# Altium schematic symbol library SYM-Connector.SchLib: 117 symbols (part 2 of 4)
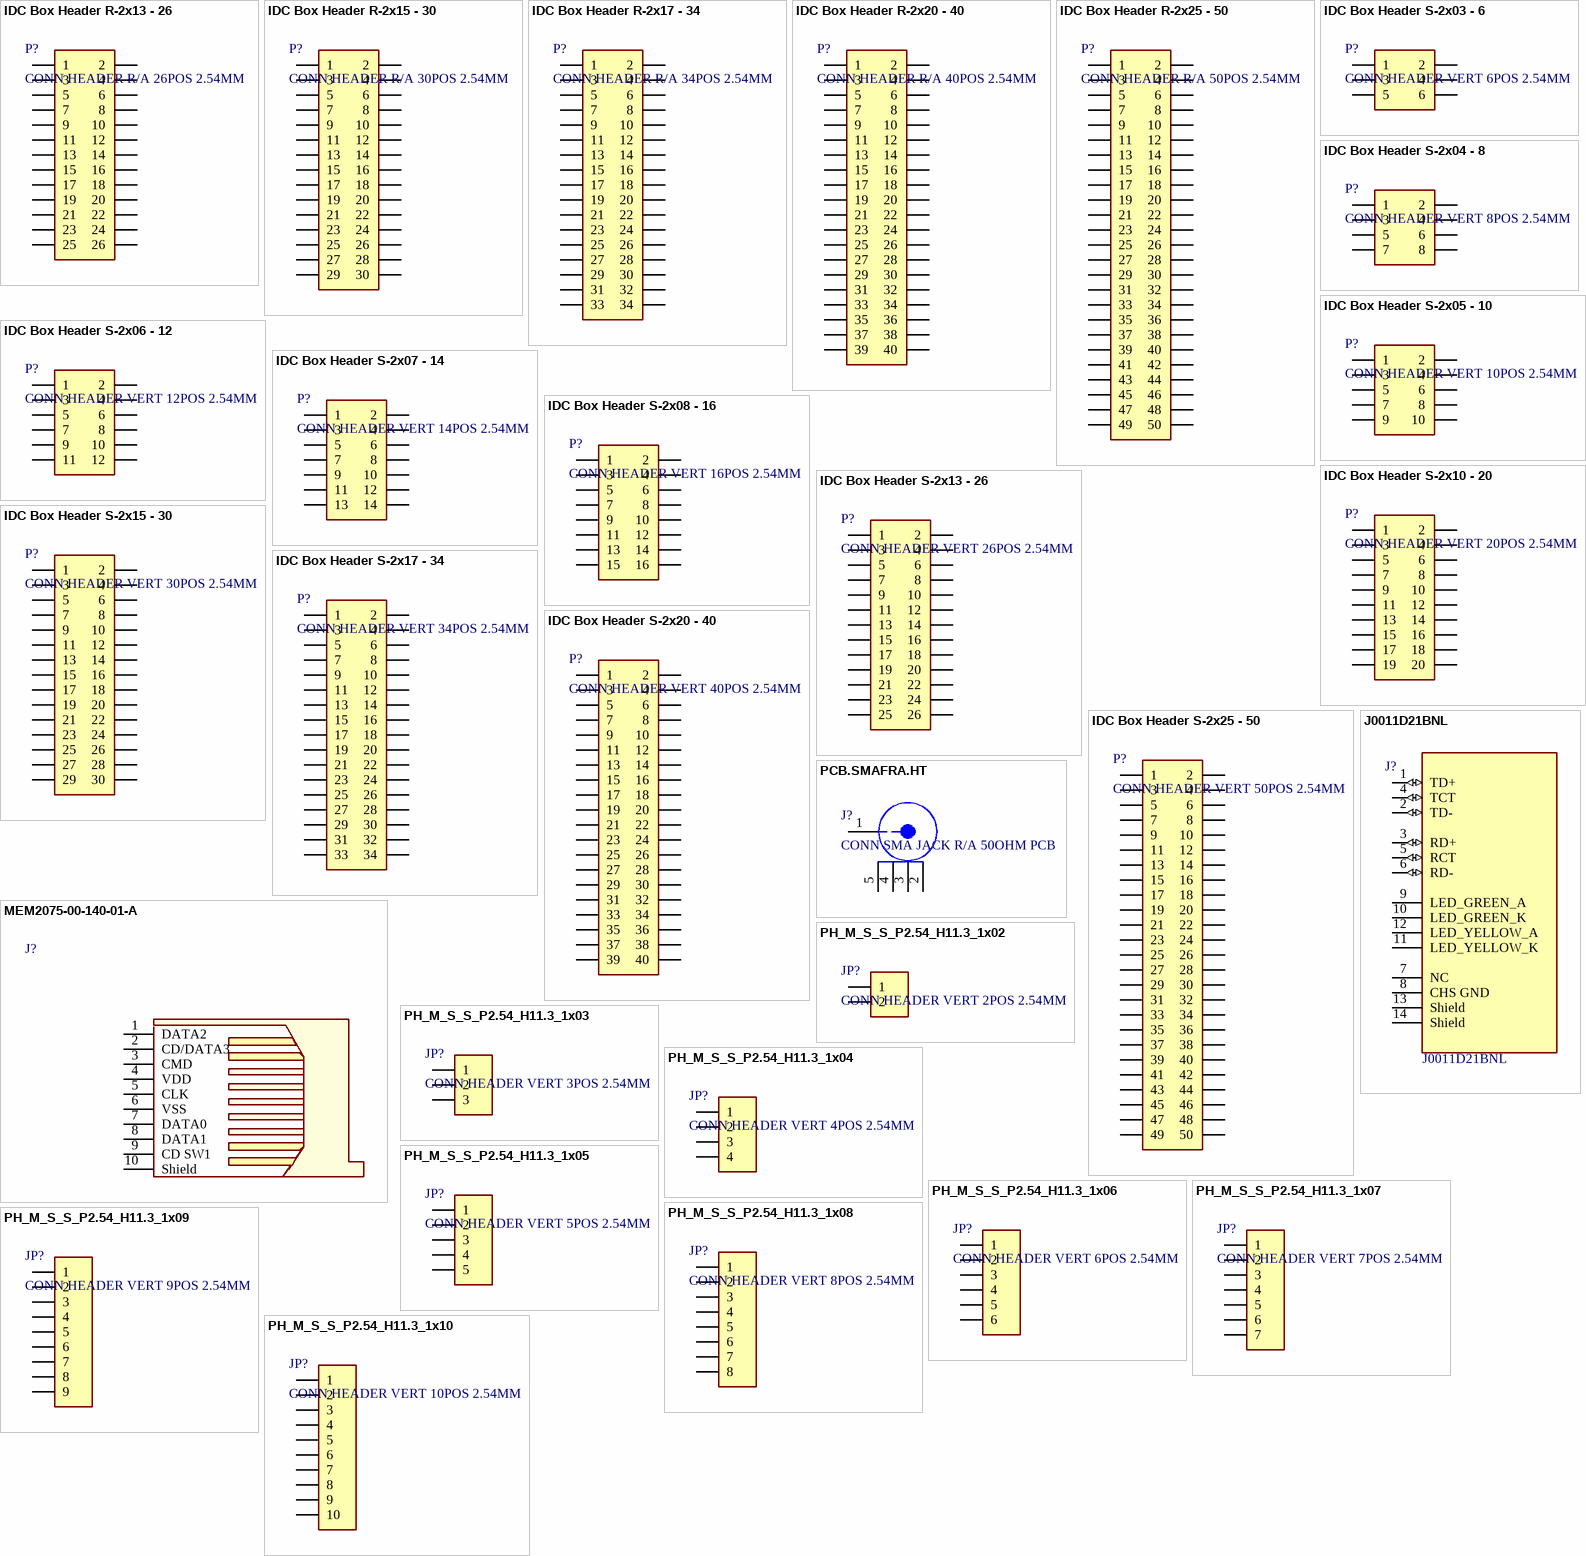
[diagram p5: symbols IDC Box Header R-2x13 - 26 to PH_M_S_S_P2.54_H11.3_1x10]

## IDC Box Header S-2x10 - 20
designator P?, comment CONN HEADER VERT 20POS 2.54MM
Conn Shrouded Header (4 Sides) HDR 20 POS 2.54mm Solder ST Thru-Hole C-Grid® Frame; Manufacturer: Molex; Manufacturer Part Number: 0702462001; System: Connector; Number of Positions: 20; Connector Type: Male Pin; Contact Resistance: 15mR; Max Voltage Rating (AC): 250V; Row Spacing: 0.1inch; Category: Connectors; Value: ?; Supplier 1: Digi-Key; RoHS: Yes; Stock 1: 2710; Pricing 1: 1=2/39000, 10=2/03200, 80=1/67875, 1440=1/32536, 5040=1/17515 (USD); Mount: Through Hole; Housing Material: Polybutylene; Housing Color: Black; Color: Black; Contact Plating: Gold; Min Operating Temperature: -55°C; Max Operating Temperature: 120°C; Packaging: Tray; Number of Rows: 2; Number of Contacts: 20; Termination: Solder; Orientation: Straight; Max Voltage Rating (DC): 250V; Length: 33.02mm; Pitch: 2.54mm; Depth: 8.89mm; Contact Mating Length: 0.24inch; ComponentLink1URL: http://components.arrow.com/part/dataview/41624620S6941508N3303?src-supplier=Arrow+Electronics; ComponentLink1Description: http://components.arrow.com/part/dataview/41624620S6941508N3303?src-supplier=Arrow+Electronics; ComponentLink2URL: http://components.arrow.com/part/dataview/0323_01057240?src-supplier=Arrow+Europe; ComponentLink2Description: http://components.arrow.com/part/dataview/0323_01057240?src-supplier=Arrow+Europe; ComponentLink3URL: https://www.molex.com/pdm_docs/sd/702462001_sd.pdf?src-supplier=Digi-Key; ComponentLink3Description: https://www.molex.com/pdm_docs/sd/702462001_sd.pdf?src-supplier=Digi-Key; Supplier Part Number 1: WM6548-ND
footprint IDC-S1-S-2x10 - 20
pins: 1, 2, 3, 4, 5, 6, 7, 8, 9, 10, 11, 12, 13, 14, 15, 16, 17, 18, 19, 20

## IDC Box Header S-2x13 - 26
designator P?, comment CONN HEADER VERT 26POS 2.54MM
2.54mm Pitch C-Grid Header Low Profile Dual Row Vertical Shrouded 26 Circuits 0.38; Manufacturer: Molex; Manufacturer Part Number: 0702462601; Number of Positions: 26; Connector Type: Male Pin; Contact Resistance: 15mR; Max Voltage Rating (AC): 250V; Pitch: 0.1inch; Supplier 1: Digi-Key; RoHS: Yes; Category: Headers and Wire Housings; Stock 1: 1; Pricing 1: 1=3/68000, 10=3/23400, 100=2/57250, 1000=2/13150, 5000=1/96000 (USD); Mount: Through Hole; Color: Black; Contact Plating: Gold; Housing Color: Black; Housing Material: Polybutylene; Min Operating Temperature: -55°C; Max Operating Temperature: 120°C; Packaging: Tray; Number of Rows: 2; Termination: Solder; Orientation: Straight; Series: C-Grid® 70246; Contact Type: Male Pin; Length: 40.64mm; Row Spacing: 0.1inch; Depth: 8.89mm; Contact Mating Length: 0.24inch; Radiation Hardening: No; RoHS Compliant: Yes; ComponentLink1URL: https://datasheet.ciiva.com/6814/702461001-sd-6814000.pdf?src-supplier=Digi-Key; ComponentLink1Description: https://datasheet.ciiva.com/6814/702461001-sd-6814000.pdf?src-supplier=Digi-Key; Supplier Part Number 1: WM9222-ND
footprint IDC-S1-S-2x13 - 26
pins: 1, 2, 3, 4, 5, 6, 7, 8, 9, 10, 11, 12, 13, 14, 15, 16, 17, 18, 19, 20, 21, 22, 23, 24, 25, 26

## IDC Box Header S-2x15 - 30
designator P?, comment CONN HEADER VERT 30POS 2.54MM
Conn Shrouded Header (4 Sides) HDR 30 POS 2.54mm Solder ST Top Entry Thru-Hole C-Grid® Tray; Manufacturer: Molex; Manufacturer Part Number: 0702463001; Number of Contacts: 30; Gender: Male; Max Voltage Rating (DC): 250V; Supplier 1: Digi-Key; RoHS: Yes; Category: Headers and Wire Housings; Stock 1: 847; Pricing 1: 1=3/04000, 10=2/67700, 100=2/12910, 1000=1/76412, 5000=1/58163 (USD); Housing Color: Black; Housing Material: Polybutylene; Contact Plating: Gold; Contact Material: Bronze; Min Operating Temperature: -55°C; Max Operating Temperature: 120°C; Orientation: Straight; Termination: Solder; Packaging: Tray; Number of Rows: 2; Length: 45.72mm; Pitch: 2.54mm; Depth: 8.89mm; ComponentLink1URL: http://components.arrow.com/part/dataview/0323_02949315?src-supplier=Arrow+Europe; ComponentLink1Description: http://components.arrow.com/part/dataview/0323_02949315?src-supplier=Arrow+Europe; ComponentLink2URL: http://components.arrow.com/part/dataview/41624628S6955577N3303?src-supplier=Arrow+Electronics; ComponentLink2Description: http://components.arrow.com/part/dataview/41624628S6955577N3303?src-supplier=Arrow+Electronics; Supplier Part Number 1: 900-0702463001-ND
footprint IDC-S1-S-2x15 - 30
pins: 1, 2, 3, 4, 5, 6, 7, 8, 9, 10, 11, 12, 13, 14, 15, 16, 17, 18, 19, 20, 21, 22, 23, 24, 25, 26, 27, 28, 29, 30

## IDC Box Header S-2x17 - 34
designator P?, comment CONN HEADER VERT 34POS 2.54MM
Conn Shrouded Header (4 Sides) HDR 34 POS 2.54mm Solder ST Thru-Hole C-Grid® Frame; Manufacturer: Molex; Manufacturer Part Number: 0702463401; Number of Positions: 34; Connector Type: Male Pin; Contact Resistance: 15mR; Max Voltage Rating (AC): 250V; Pitch: 0.1inch; Supplier 1: Digi-Key; RoHS: Yes; Category: Headers and Wire Housings; Stock 1: 779; Pricing 1: 1=3/03000, 10=2/66700, 100=2/12180, 1000=1/75806, 5000=1/57619 (USD); Mount: Through Hole; Color: Black; Housing Color: Black; Housing Material: Polybutylene; Contact Plating: Gold; Min Operating Temperature: -55°C; Max Operating Temperature: 120°C; Number of Rows: 2; Packaging: Tray; Termination: Solder; Orientation: Straight; Length: 50.8mm; Row Spacing: 0.1inch; Depth: 8.89mm; Contact Mating Length: 0.24inch; Radiation Hardening: No; ComponentLink1URL: https://datasheet.ciiva.com/6814/702461001-sd-6814000.pdf?src-supplier=Digi-Key; ComponentLink1Description: https://datasheet.ciiva.com/6814/702461001-sd-6814000.pdf?src-supplier=Digi-Key; ComponentLink2URL: https://datasheet.ciiva.com/9465/0702463401-pcb-headers-9465157.pdf?src-supplier=Avnet; ComponentLink2Description: https://datasheet.ciiva.com/9465/0702463401-pcb-headers-9465157.pdf?src-supplier=Avnet; Supplier Part Number 1: WM9224-ND
footprint IDC-S1-S-2x17 - 34
pins: 1, 2, 3, 4, 5, 6, 7, 8, 9, 10, 11, 12, 13, 14, 15, 16, 17, 18, 19, 20, 21, 22, 23, 24, 25, 26, 27, 28, 29, 30, 31, 32, 33, 34

## IDC Box Header S-2x20 - 40
designator P?, comment CONN HEADER VERT 40POS 2.54MM
Conn Shrouded Header (4 Sides) HDR 40 POS 2.54mm Solder ST Thru-Hole C-Grid® Frame; Manufacturer: Molex; Manufacturer Part Number: 0702464001; Number of Positions: 40; Connector Type: Male Pin; Contact Resistance: 15mR; Max Voltage Rating (AC): 125V; Row Spacing: 0.1inch; Supplier 1: Digi-Key; RoHS: Yes; Category: Headers and Wire Housings; Stock 1: 477; Pricing 1: 1=4/05000, 10=3/56700, 400=2/83728, 1200=2/35089 (USD); Mount: Through Hole; Color: Black; Housing Color: Black; Housing Material: Polybutylene; Contact Plating: Gold; Contact Material: Bronze; Min Operating Temperature: -55°C; Max Operating Temperature: 120°C; Number of Rows: 2; Packaging: Tray; Termination: Solder; Number of Contacts: 40; Series: C-Grid® 70246; Contact Type: Male Pin; Orientation: Straight; Length: 58.42mm; Pitch: 2.54mm; Depth: 8.89mm; Contact Mating Length: 0.24inch; Radiation Hardening: No; RoHS Compliant: Yes; ComponentLink1URL: https://datasheet.ciiva.com/6814/702461001-sd-6814000.pdf?src-supplier=Digi-Key; ComponentLink1Description: https://datasheet.ciiva.com/6814/702461001-sd-6814000.pdf?src-supplier=Digi-Key; Supplier Part Number 1: WM6550-ND
footprint IDC-S1-S-2x20 - 40
pins: 1, 2, 3, 4, 5, 6, 7, 8, 9, 10, 11, 12, 13, 14, 15, 16, 17, 18, 19, 20, 21, 22, 23, 24, 25, 26, 27, 28, 29, 30, 31, 32, 33, 34, 35, 36, 37, 38, 39, 40

## IDC Box Header S-2x25 - 50
designator P?, comment CONN HEADER VERT 50POS 2.54MM
2.54mm Pitch C-Grid Header Low Profile Dual Row Vertical Shrouded 50 Circuits 0.38; Manufacturer: Molex; Manufacturer Part Number: 0702465001; Contact Resistance: 15mR; Max Voltage Rating (DC): 250V; Number of Contacts: 50; Supplier 1: Digi-Key; RoHS: Yes; Category: Headers and Wire Housings; Stock 1: 227; Pricing 1: 1=4/69000, 10=4/12800, 100=3/28390, 1000=2/72098 (USD); Contact Plating: Gold; Housing Material: Polyester; Housing Color: Black; Min Operating Temperature: -55°C; Max Operating Temperature: 120°C; Packaging: Tray; Number of Rows: 2; Orientation: Straight; Termination: Solder; Max Voltage Rating (AC): 250V; Length: 71.12mm; Pitch: 2.54mm; Depth: 8.89mm; Radiation Hardening: No; ComponentLink1URL: https://datasheet.ciiva.com/9470/0702465001-pcb-headers-9470310.pdf?src-supplier=Avnet; ComponentLink1Description: https://datasheet.ciiva.com/9470/0702465001-pcb-headers-9470310.pdf?src-supplier=Avnet; Supplier Part Number 1: 23-0702465001-ND
footprint IDC-S1-S-2x25 - 50
pins: 1, 2, 3, 4, 5, 6, 7, 8, 9, 10, 11, 12, 13, 14, 15, 16, 17, 18, 19, 20, 21, 22, 23, 24, 25, 26, 27, 28, 29, 30, 31, 32, 33, 34, 35, 36, 37, 38, 39, 40, 41, 42, 43, 44, 45, 46, 47, 48, 49, 50

## J0011D21BNL
designator J?, comment Manufacturer Part Number: J0011D21BNL  (hidden comment: CONN JACK 1PORT 100 BASE-TX PCB)
Conn RJ-45 F 8 POS 1.27mm Solder RA Thru-Hole 12 Terminal 1 Port Cat 5/Cat 6; Manufacturer: Pulse; Shielding: Shielded; Connector Type: RJ45; Number of Ports: 1; Direction: Down; Number of Cores per Jack: 4; Gender: Female; Current Rating: 8mA; Number of Contacts: 8; Pitch: 2.54mm; Supplier 1: Digi-Key; RoHS: Yes; Category: Modular / Ethernet Connectors; Stock 1: 9667; Pricing 1: 1=8/77000, 10=7/89000, 25=7/43240, 50=7/24180, 100=7/05130, 250=6/28896, 450=5/90782, 950=5/22176 (USD); Mount: Through Hole; Contact Plating: Gold; Contact Material: Bronze; Color: Green,Yellow; Housing Material: Thermoplastic; Min Operating Temperature: 0°C; Max Operating Temperature: 70°C; Packaging: Rail/Tube; Number of Rows: 1; Termination: Solder; Package Quantity: 25; Number of Positions Loaded: 8; Orientation: Right Angle; Length: 16.26mm; Depth: 21.59mm; Lead Free: Lead Free; ComponentLink1URL: http://components.arrow.com/part/dataview/0323_01094263?src-supplier=Arrow+Europe; ComponentLink1Description: http://components.arrow.com/part/dataview/0323_01094263?src-supplier=Arrow+Europe; ComponentLink2URL: http://www.farnell.com/datasheets/2614764.pdf?src-supplier=Farnell; ComponentLink2Description: http://www.farnell.com/datasheets/2614764.pdf?src-supplier=Farnell; ComponentLink3URL: http://components.arrow.com/part/dataview/42086558S7442995N6149?src-supplier=Arrow+Electronics; ComponentLink3Description: http://components.arrow.com/part/dataview/42086558S7442995N6149?src-supplier=Arrow+Electronics; ComponentLink4URL: http://productfinder.pulseeng.com/products/datasheets/J403.pdf;jsessionid=97D996F55B4F0D5C347D091F87A0B4BB?src-supplier=Avnet; ComponentLink4Description: http://productfinder.pulseeng.com/products/datasheets/J403.pdf;jsessionid=97D996F55B4F0D5C347D091F87A0B4BB?src-supplier=Avnet; ComponentLink5URL: https://www.verical.com/server-webapp/html/getDatasheet?partID=94029&src-supplier=Verical; ComponentLink5Description: https://www.verical.com/server-webapp/html/getDatasheet?partID=94029&src-supplier=Verical; ComponentLink6URL: http://ww2.pulseeng.com/products/datasheets/J403.pdf?src-supplier=Mouser; ComponentLink6Description: http://ww2.pulseeng.com/products/datasheets/J403.pdf?src-supplier=Mouser; ComponentLink7URL: http://productfinder.pulseeng.com/products/datasheets/J403.pdf;jsessionid=97D996F55B4F0D5C347D091F87A0B4BB?src-supplier=Avnet+Europe; ComponentLink7Description: http://productfinder.pulseeng.com/products/datasheets/J403.pdf;jsessionid=97D996F55B4F0D5C347D091F87A0B4BB?src-supplier=Avnet+Europe; ComponentLink8URL: https://productfinder.pulseeng.com/doc_type/WEB301/doc_num/J403/doc_part/J403.pdf?src-supplier=Digi-Key; ComponentLink8Description: https://productfinder.pulseeng.com/doc_type/WEB301/doc_num/J403/doc_part/J403.pdf?src-supplier=Digi-Key; ComponentLink9URL: http://www.farnell.com/datasheets/2614764.pdf?src-supplier=Element14; ComponentLink9Description: http://www.farnell.com/datasheets/2614764.pdf?src-supplier=Element14; ComponentLink10URL: http://www.farnell.com/datasheets/2614764.pdf?src-supplier=Newark; ComponentLink10Description: http://www.farnell.com/datasheets/2614764.pdf?src-supplier=Newark; Supplier Part Number 1: 553-1485-ND
footprint J0011D21BNL (Ethernet Connector with EMI Fingers)
pins: 1 TD+ (io), 2 TD- (io), 3 RD+ (io), 4 TCT (io), 5 RCT (io), 6 RD- (io), 7 NC, 8 CHS GND, 9 LED_GREEN_A, 10 LED_GREEN_K, 11 LED_YELLOW_K, 12 LED_YELLOW_A, 13 Shield, 14 Shield

## MEM2075-00-140-01-A
designator J?
MEM2075 Series Normally Open SMT Push-Push MicroSD Memory Card Connector; Manufacturer: Global Connector Technology; Manufacturer Part Number: MEM2075-00-140-01-A; Supplier 1: Digi-Key; RoHS: No; ComponentLink1URL: https://gct.co/files/drawings/mem2075.pdf?src-supplier=Digi-Key; ComponentLink1Description: https://gct.co/files/drawings/mem2075.pdf?src-supplier=Digi-Key; Supplier Part Number 1: 2073-MEM2075-00-140-01-ACT-ND
footprint MicroSD_1 (altium designer (M.Hariri))
pins: 1 DATA2, 2 CD/DATA3, 3 CMD, 4 VDD, 5 CLK, 6 VSS, 7 DATA0, 8 DATA1, 9 CD SW1, 10 Shield

## PCB.SMAFRA.HT
designator J?, comment CONN SMA JACK R/A 50OHM PCB
SMA Connector Jack, Female Socket 50 Ohm Through Hole, Right Angle Solder; Manufacturer: Taoglas; Manufacturer Part Number: PCB.SMAFRA.HT; Body Material: Brass; Dielectric Material: PTFE; Body Plating: Gold; Connector Type: SMA,Socket; Max Frequency: 6GHz; Voltage Rating: 500V; Impedance: 50R; Supplier 1: Digi-Key; RoHS: Yes; Category: RF / Coaxial Connectors; Stock 1: 9682; Pricing 1: 1=3/24000, 100=2/97000, 500=2/70000, 1000=2/32000 (USD); Mount: Through Hole,Surface Mount; Case/Package: SMA; Contact Plating: Gold; Contact Material: Brass; Housing Color: Gold; Package Quantity: 500; Packaging: Tray; Termination: Solder; Fastening Type: Threaded; Frequency: 6GHz; Orientation: Right Angle; ComponentLink1URL: http://taoglas.com/images/product_images/original_images/PCB.SMAFRA.HT.pdf?src-supplier=Avnet; ComponentLink1Description: http://taoglas.com/images/product_images/original_images/PCB.SMAFRA.HT.pdf?src-supplier=Avnet; ComponentLink2URL: http://www.taoglas.com/wp-content/uploads/2016/01/PCB.SMAFRA.HT_.pdf?src-supplier=Digi-Key; ComponentLink2Description: http://www.taoglas.com/wp-content/uploads/2016/01/PCB.SMAFRA.HT_.pdf?src-supplier=Digi-Key; Supplier Part Number 1: 931-1361-ND
footprint SMA Jack - RS
pins: 1, 2, 3, 4, 5

## PH_M_S_S_P2.54_H11.3_1x02
designator JP?, comment CONN HEADER VERT 2POS 2.54MM
CONN HEADER 2 POS 2.54; Manufacturer: Wurth Electronics; Manufacturer Part Number: 61300211121; Current Rating: 3A; Voltage Rating: 250V; Number of Positions: 2; Gender: Male; Connector Type: Male Pin; Pitch: 0.1inch; Supplier 1: Digi-Key; RoHS: Yes; Category: Headers and Wire Housings; Stock 1: 92955; Pricing 1: 1=0/13000, 10=0/11000, 25=0/09120, 50=0/07700, 100=0/06900, 1000=0/06300 (USD); Mount: Through Hole; Contact Plating: Gold; Housing Material: PBT; Contact Material: Copper Alloy,Copper; Color: Black; Min Operating Temperature: -40°C; Max Operating Temperature: 125°C; Number of Rows: 1; Contact Gender: Male; Packaging: Bulk; Termination: Through Hole; Number of Contacts: 2; Series: WR-PHD; Contact Type: Male Pin; Contact Mating Length: 0.236inch; REACH SVHC: Unknown; Lead Free: Lead Free; RoHS Compliant: Yes; ComponentLink1URL: https://datasheet.ciiva.com/13619/6130xx11121-48870-13619345.pdf?src-supplier=Mouser; ComponentLink1Description: https://datasheet.ciiva.com/13619/6130xx11121-48870-13619345.pdf?src-supplier=Mouser; Supplier Part Number 1: 732-5315-ND
footprint HDR-M-S-P2.54-H11.3-1x02
pins: 1, 2

## PH_M_S_S_P2.54_H11.3_1x03
designator JP?, comment CONN HEADER VERT 3POS 2.54MM
CONN HEADER 3 POS 2.54; Manufacturer: Wurth Electronics; Manufacturer Part Number: 61300311121; Number of Positions: 3; Gender: Male; Connector Type: Male Pin; Pitch: 0.1inch; Supplier 1: Digi-Key; RoHS: Yes; Category: Connectors; Stock 1: 53625; Pricing 1: 1=0/13000, 10=0/11000, 25=0/09120, 50=0/07700, 100=0/06900, 1000=0/06600 (USD); Mount: Through Hole; Contact Plating: Gold; Contact Material: Copper; Color: Black; Number of Rows: 1; Packaging: Bulk; Termination: Solder; Number of Contacts: 3; Contact Mating Length: 0.236inch; REACH SVHC: Unknown; Lead Free: Lead Free; RoHS Compliant: Yes; ComponentLink1URL: http://www.farnell.com/cad/1737268.pdf?src-supplier=Element14; ComponentLink1Description: http://www.farnell.com/cad/1737268.pdf?src-supplier=Element14; ComponentLink2URL: https://katalog.we-online.de/em/datasheet/6130xx11121.pdf?src-supplier=Digi-Key; ComponentLink2Description: https://katalog.we-online.de/em/datasheet/6130xx11121.pdf?src-supplier=Digi-Key; Supplier Part Number 1: 732-5316-ND
footprint HDR-M-S-P2.54-H11.3-1x03
pins: 1, 2, 3

## PH_M_S_S_P2.54_H11.3_1x04
designator JP?, comment CONN HEADER VERT 4POS 2.54MM
THT Vertical Pin Header WR-PHD, Pitch 2.54 mm, Single Row, 4 pins; Manufacturer: Wurth Electronics; Manufacturer Part Number: 61300411121; Number of Positions: 4; Gender: Male; Connector Type: Male Pin; Pitch: 0.1inch; Supplier 1: Digi-Key; RoHS: Yes; Category: Headers and Wire Housings; Stock 1: 3724; Pricing 1: 1=0/19000, 10=0/15800, 25=0/13120, 50=0/11000, 100=0/09900, 1000=0/09100 (USD); Mount: Through Hole; Contact Plating: Gold; Contact Material: Copper; Color: Black; Number of Rows: 1; Packaging: Bulk; Termination: Solder; Number of Contacts: 4; Contact Mating Length: 0.236inch; REACH SVHC: Unknown; Lead Free: Lead Free; RoHS Compliant: Yes; ComponentLink1URL: http://www.farnell.com/cad/1737268.pdf?src-supplier=Element14; ComponentLink1Description: http://www.farnell.com/cad/1737268.pdf?src-supplier=Element14; ComponentLink2URL: https://katalog.we-online.de/em/datasheet/6130xx11121.pdf?src-supplier=Digi-Key; ComponentLink2Description: https://katalog.we-online.de/em/datasheet/6130xx11121.pdf?src-supplier=Digi-Key; Supplier Part Number 1: 732-5317-ND
footprint HDR-M-S-P2.54-H11.3-1x04
pins: 1, 2, 3, 4

## PH_M_S_S_P2.54_H11.3_1x05
designator JP?, comment CONN HEADER VERT 5POS 2.54MM
THT Vertical Pin Header WR-PHD, Pitch 2.54 mm, Single Row, 5 pins; Manufacturer: Wurth Electronics; Manufacturer Part Number: 61300511121; Number of Positions: 5; Gender: Male; Connector Type: Male Pin; Pitch: 0.1inch; Supplier 1: Digi-Key; RoHS: Yes; Category: Headers and Wire Housings; Stock 1: 54677; Pricing 1: 1=0/26000, 10=0/21600, 25=0/18000, 50=0/15000, 100=0/13700, 1000=0/12400 (USD); Mount: Through Hole; Contact Plating: Gold; Contact Material: Copper; Color: Black; Number of Rows: 1; Packaging: Bulk; Termination: Solder; Number of Contacts: 5; Contact Mating Length: 0.236inch; REACH SVHC: Unknown; Lead Free: Lead Free; RoHS Compliant: Yes; ComponentLink1URL: http://www.farnell.com/cad/1737268.pdf?src-supplier=Element14; ComponentLink1Description: http://www.farnell.com/cad/1737268.pdf?src-supplier=Element14; ComponentLink2URL: https://katalog.we-online.de/em/datasheet/6130xx11121.pdf?src-supplier=Digi-Key; ComponentLink2Description: https://katalog.we-online.de/em/datasheet/6130xx11121.pdf?src-supplier=Digi-Key; Supplier Part Number 1: 732-5318-ND
footprint HDR-M-S-P2.54-H11.3-1x05
pins: 1, 2, 3, 4, 5

## PH_M_S_S_P2.54_H11.3_1x06
designator JP?, comment CONN HEADER VERT 6POS 2.54MM
CONN HEADER 6 POS 2.54; Manufacturer: Wurth Electronics; Manufacturer Part Number: 61300611121; Current Rating: 3A; Voltage Rating: 250V; Number of Positions: 6; Gender: Male; Connector Type: Male Pin; Pitch: 0.1inch; Supplier 1: Digi-Key; RoHS: Yes; Category: Headers and Wire Housings; Stock 1: 9039; Pricing 1: 1=0/34000, 10=0/28900, 25=0/24000, 50=0/20100, 100=0/18200, 1000=0/16600 (USD); Mount: Through Hole; Contact Plating: Gold; Contact Material: Copper Alloy,Copper; Housing Material: PBT; Color: Black; Min Operating Temperature: -40°C; Max Operating Temperature: 125°C; Number of Rows: 1; Contact Gender: Male; Packaging: Bulk; Termination: Through Hole; Number of Contacts: 6; Series: WR-PHD; Contact Type: Male Pin; Contact Mating Length: 0.236inch; REACH SVHC: Unknown; Lead Free: Lead Free; RoHS Compliant: Yes; ComponentLink1URL: http://www.mouser.com/ds/2/445/6130xx11121-538006.pdf?src-supplier=Mouser; ComponentLink1Description: http://www.mouser.com/ds/2/445/6130xx11121-538006.pdf?src-supplier=Mouser; ComponentLink2URL: http://www.farnell.com/cad/1737268.pdf?src-supplier=Element14; ComponentLink2Description: http://www.farnell.com/cad/1737268.pdf?src-supplier=Element14; ComponentLink3URL: https://katalog.we-online.de/em/datasheet/6130xx11121.pdf?src-supplier=Digi-Key; ComponentLink3Description: https://katalog.we-online.de/em/datasheet/6130xx11121.pdf?src-supplier=Digi-Key; Supplier Part Number 1: 732-5319-ND
footprint HDR-M-S-P2.54-H11.3-1x06
pins: 1, 2, 3, 4, 5, 6

## PH_M_S_S_P2.54_H11.3_1x07
designator JP?, comment CONN HEADER VERT 7POS 2.54MM
THT Vertical Pin Header WR-PHD, Pitch 2.54 mm, Single Row, 7 pins; Manufacturer: Wurth Electronics; Manufacturer Part Number: 61300711121; Number of Positions: 7; Gender: Male; Connector Type: Male Pin; Pitch: 0.1inch; Supplier 1: Digi-Key; RoHS: Yes; Category: Connectors; Stock 1: 9289; Pricing 1: 1=0/38000, 10=0/32600, 25=0/27200, 50=0/22700, 100=0/20600, 1000=0/18700 (USD); Mount: Through Hole; Contact Plating: Gold; Contact Material: Copper; Color: Black; Number of Rows: 1; Packaging: Bulk; Termination: Solder; Number of Contacts: 7; Contact Mating Length: 0.236inch; REACH SVHC: Unknown; RoHS Compliant: Yes; ComponentLink1URL: https://katalog.we-online.de/em/datasheet/6130xx11121.pdf?src-supplier=Digi-Key; ComponentLink1Description: https://katalog.we-online.de/em/datasheet/6130xx11121.pdf?src-supplier=Digi-Key; Supplier Part Number 1: 732-5320-ND
footprint HDR-M-S-P2.54-H11.3-1x07
pins: 1, 2, 3, 4, 5, 6, 7

## PH_M_S_S_P2.54_H11.3_1x08
designator JP?, comment CONN HEADER VERT 8POS 2.54MM
CONNHEADER8POS2.54; Manufacturer: Wurth Electronics; Manufacturer Part Number: 61300811121; Number of Positions: 8; Gender: Male; Connector Type: Male Pin; Pitch: 0.1inch; Supplier 1: Digi-Key; RoHS: Yes; Category: Connectors; Stock 1: 44427; Pricing 1: 1=0/38000, 10=0/32600, 25=0/27200, 50=0/22700, 100=0/20600, 1000=0/18700 (USD); Mount: Through Hole; Contact Plating: Gold; Contact Material: Copper; Color: Black; Number of Rows: 1; Packaging: Bulk; Termination: Solder; Number of Contacts: 8; Contact Mating Length: 0.236inch; REACH SVHC: Unknown; RoHS Compliant: Yes; ComponentLink1URL: http://www.farnell.com/cad/1737268.pdf?src-supplier=Element14; ComponentLink1Description: http://www.farnell.com/cad/1737268.pdf?src-supplier=Element14; ComponentLink2URL: https://katalog.we-online.de/em/datasheet/6130xx11121.pdf?src-supplier=Digi-Key; ComponentLink2Description: https://katalog.we-online.de/em/datasheet/6130xx11121.pdf?src-supplier=Digi-Key; Supplier Part Number 1: 732-5321-ND
footprint HDR-M-S-P2.54-H11.3-1x08
pins: 1, 2, 3, 4, 5, 6, 7, 8

## PH_M_S_S_P2.54_H11.3_1x09
designator JP?, comment CONN HEADER VERT 9POS 2.54MM
THT Vertical Pin Header WR-PHD, Pitch 2.54 mm, Single Row, 9 pins; Manufacturer: Wurth Electronics; Manufacturer Part Number: 61300911121; Number of Positions: 9; Gender: Male; Connector Type: Male Pin; Pitch: 0.1inch; Supplier 1: Digi-Key; RoHS: Yes; Category: Connectors; Stock 1: 3827; Pricing 1: 1=0/43000, 10=0/36000, 25=0/30000, 50=0/25000, 100=0/22800, 1000=0/20700 (USD); Mount: Through Hole; Contact Plating: Gold; Contact Material: Copper; Color: Black; Number of Rows: 1; Packaging: Bulk; Termination: Solder; Number of Contacts: 9; Contact Mating Length: 0.236inch; REACH SVHC: Unknown; RoHS Compliant: Yes; ComponentLink1URL: https://datasheet.ciiva.com/28505/1737268-28505520.pdf?src-supplier=Element14; ComponentLink1Description: https://datasheet.ciiva.com/28505/1737268-28505520.pdf?src-supplier=Element14; Supplier Part Number 1: 732-5322-ND
footprint HDR-M-S-P2.54-H11.3-1x09
pins: 1, 2, 3, 4, 5, 6, 7, 8, 9

## PH_M_S_S_P2.54_H11.3_1x10
designator JP?, comment CONN HEADER VERT 10POS 2.54MM
CONN HEADER 10POS PIN 2.54MM; Manufacturer: Wurth Electronics; Manufacturer Part Number: 61301011121; Current Rating: 3A; Number of Positions: 10; Insulation Resistance: 1GR; Voltage Rating: 250V; Gender: Male; Connector Type: Male Pin; Supplier 1: Digi-Key; RoHS: Yes; Category: Headers and Wire Housings; Stock 1: 3841; Pricing 1: 1=0/92000, 10=0/90500, 50=0/83400, 100=0/76500, 200=0/69600 (USD); Mount: Through Hole; Contact Plating: Gold; Contact Material: Copper Alloy,Copper; Color: Black; Housing Material: PBT; Min Operating Temperature: -40°C; Max Operating Temperature: 125°C; Package Quantity: 1000; Packaging: Bulk; Termination: Solder; Series: WR-PHD; Number of Rows: 1; Contact Gender: Male; Number of Contacts: 10; Contact Type: Male Pin; Orientation: Straight; Length: 2.54mm; Width: 25.4mm; Height: 11.54mm; Pitch: 2.54mm; Contact Mating Length: 0.236inch; RoHS Compliant: Yes; REACH SVHC: Unknown; Flammability Rating: UL94 V-0; ComponentLink1URL: https://datasheet.ciiva.com/7631/1442175-7631321.pdf?src-supplier=Element14; ComponentLink1Description: https://datasheet.ciiva.com/7631/1442175-7631321.pdf?src-supplier=Element14; ComponentLink2URL: https://datasheet.ciiva.com/738/6130xx11121-738550.pdf?src-supplier=Digi-Key; ComponentLink2Description: https://datasheet.ciiva.com/738/6130xx11121-738550.pdf?src-supplier=Digi-Key; ComponentLink3URL: https://datasheet.ciiva.com/48700/001088187-da-01-en-wr-phd-tht-stiftleiste-61301011121-48700876.pdf?src-supplier=Conrad; ComponentLink3Description: https://datasheet.ciiva.com/48700/001088187-da-01-en-wr-phd-tht-stiftleiste-61301011121-48700876.pdf?src-supplier=Conrad; Supplier Part Number 1: 732-2670-ND
footprint HDR-M-S-P2.54-H11.3-1x10
pins: 1, 2, 3, 4, 5, 6, 7, 8, 9, 10

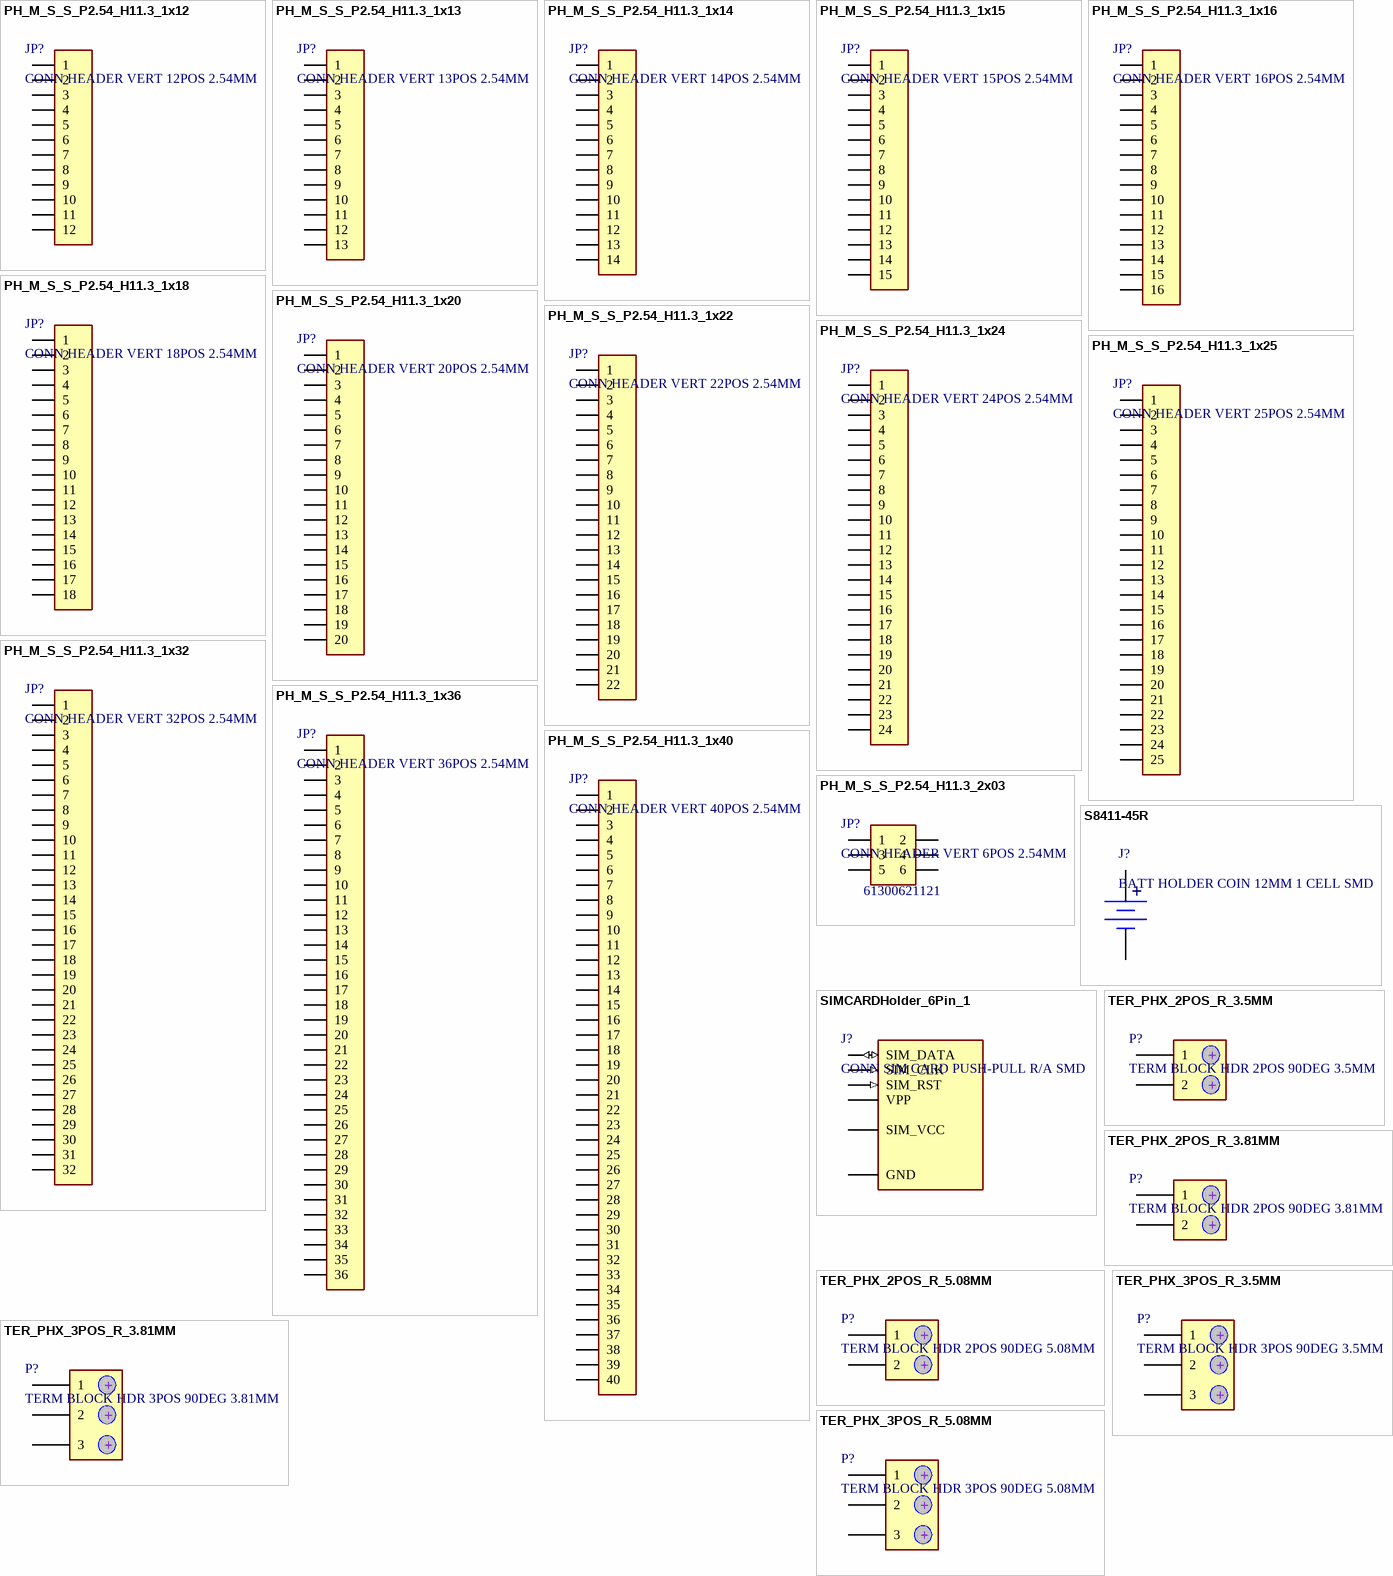
[diagram p2: symbols PH_M_S_S_P2.54_H11.3_1x12 to TER_PHX_3POS_R_5.08MM]

## PH_M_S_S_P2.54_H11.3_1x12
designator JP?, comment CONN HEADER VERT 12POS 2.54MM
THT Vertical Pin Header WR-PHD, Pitch 2.54 mm, Single Row, 12 pins; Manufacturer: Wurth Electronics; Manufacturer Part Number: 61301211121; Number of Positions: 12; Gender: Male; Connector Type: Male Pin; Pitch: 0.1inch; Supplier 1: Digi-Key; RoHS: Yes; Category: Connectors; Stock 1: 2909; Pricing 1: 1=0/56000, 10=0/47000, 25=0/39200, 50=0/32700, 100=0/29700, 1000=0/27000 (USD); Mount: Through Hole; Contact Plating: Gold; Contact Material: Copper; Color: Black; Number of Rows: 1; Packaging: Bulk; Termination: Solder; Number of Contacts: 12; Contact Mating Length: 0.236inch; REACH SVHC: Unknown; RoHS Compliant: Yes; ComponentLink1URL: http://www.farnell.com/cad/1737268.pdf?src-supplier=Element14; ComponentLink1Description: http://www.farnell.com/cad/1737268.pdf?src-supplier=Element14; ComponentLink2URL: https://katalog.we-online.de/em/datasheet/6130xx11121.pdf?src-supplier=Digi-Key; ComponentLink2Description: https://katalog.we-online.de/em/datasheet/6130xx11121.pdf?src-supplier=Digi-Key; Supplier Part Number 1: 732-5323-ND
footprint HDR-M-S-P2.54-H11.3-1x12
pins: 1, 2, 3, 4, 5, 6, 7, 8, 9, 10, 11, 12

## PH_M_S_S_P2.54_H11.3_1x13
designator JP?, comment CONN HEADER VERT 13POS 2.54MM
THT Vertical Pin Header WR-PHD, Pitch 2.54 mm, Single Row, 13 pins; Manufacturer: Wurth Electronics; Manufacturer Part Number: 61301311121; Number of Positions: 13; Gender: Male; Connector Type: Male Pin; Pitch: 0.1inch; Supplier 1: Digi-Key; RoHS: Yes; Category: Connectors; Stock 1: 1408; Pricing 1: 1=0/73000, 10=0/61500, 25=0/51200, 50=0/42600, 100=0/38800, 1000=0/35300 (USD); Mount: Through Hole; Contact Plating: Gold; Contact Material: Copper; Color: Black; Number of Rows: 1; Packaging: Bulk; Termination: Solder; Number of Contacts: 13; Contact Mating Length: 0.236inch; REACH SVHC: Unknown; Lead Free: Lead Free; RoHS Compliant: Yes; ComponentLink1URL: http://www.farnell.com/cad/1737268.pdf?src-supplier=Element14; ComponentLink1Description: http://www.farnell.com/cad/1737268.pdf?src-supplier=Element14; ComponentLink2URL: https://katalog.we-online.de/em/datasheet/6130xx11121.pdf?src-supplier=Digi-Key; ComponentLink2Description: https://katalog.we-online.de/em/datasheet/6130xx11121.pdf?src-supplier=Digi-Key; Supplier Part Number 1: 732-5324-ND
footprint HDR-M-S-P2.54-H11.3-1x13
pins: 1, 2, 3, 4, 5, 6, 7, 8, 9, 10, 11, 12, 13

## PH_M_S_S_P2.54_H11.3_1x14
designator JP?, comment CONN HEADER VERT 14POS 2.54MM
THT Vertical Pin Header WR-PHD, Pitch 2.54 mm, Single Row, 14 pins; Manufacturer: Wurth Electronics; Manufacturer Part Number: 61301411121; Number of Positions: 14; Gender: Male; Connector Type: Male Pin; Pitch: 0.1inch; Supplier 1: Digi-Key; RoHS: Yes; Category: Headers and Wire Housings; Stock 1: 4392; Pricing 1: 1=0/77000, 10=0/64900, 25=0/54000, 50=0/45000, 100=0/41000, 500=0/37300 (USD); Mount: Through Hole; Contact Plating: Gold; Contact Material: Copper; Color: Black; Number of Rows: 1; Packaging: Bulk; Termination: Solder; Number of Contacts: 14; Contact Mating Length: 0.236inch; REACH SVHC: Unknown; Lead Free: Lead Free; RoHS Compliant: Yes; ComponentLink1URL: http://www.farnell.com/cad/1737268.pdf?src-supplier=Element14; ComponentLink1Description: http://www.farnell.com/cad/1737268.pdf?src-supplier=Element14; ComponentLink2URL: https://katalog.we-online.de/em/datasheet/6130xx11121.pdf?src-supplier=Digi-Key; ComponentLink2Description: https://katalog.we-online.de/em/datasheet/6130xx11121.pdf?src-supplier=Digi-Key; Supplier Part Number 1: 732-5325-ND
footprint HDR-M-S-P2.54-H11.3-1x14
pins: 1, 2, 3, 4, 5, 6, 7, 8, 9, 10, 11, 12, 13, 14

## PH_M_S_S_P2.54_H11.3_1x15
designator JP?, comment CONN HEADER VERT 15POS 2.54MM
Conn Unshrouded Header HDR 15 POS 2.54mm Solder ST Top Entry Thru-Hole Bag; Manufacturer: Wurth Electronics; Manufacturer Part Number: 61301511121; Number of Positions: 15; Gender: Male; Connector Type: Male Pin; Pitch: 0.1inch; Supplier 1: Digi-Key; RoHS: Yes; Category: Headers and Wire Housings; Stock 1: 1369; Pricing 1: 1=0/85000, 10=0/72100, 25=0/60120, 50=0/50100, 100=0/45500, 500=0/41400 (USD); Mount: Through Hole; Contact Plating: Gold; Contact Material: Copper; Color: Black; Number of Rows: 1; Packaging: Bulk; Termination: Solder; Number of Contacts: 15; Contact Mating Length: 0.236inch; REACH SVHC: Unknown; RoHS Compliant: Yes; ComponentLink1URL: http://www.farnell.com/cad/1737268.pdf?src-supplier=Element14; ComponentLink1Description: http://www.farnell.com/cad/1737268.pdf?src-supplier=Element14; ComponentLink2URL: https://katalog.we-online.de/em/datasheet/6130xx11121.pdf?src-supplier=Digi-Key; ComponentLink2Description: https://katalog.we-online.de/em/datasheet/6130xx11121.pdf?src-supplier=Digi-Key; Supplier Part Number 1: 732-5326-ND
footprint HDR-M-S-P2.54-H11.3-1x15
pins: 1, 2, 3, 4, 5, 6, 7, 8, 9, 10, 11, 12, 13, 14, 15

## PH_M_S_S_P2.54_H11.3_1x16
designator JP?, comment CONN HEADER VERT 16POS 2.54MM
THT Vertical Pin Header WR-PHD, Pitch 2.54 mm, Single Row, 16 pins; Manufacturer: Wurth Electronics; Manufacturer Part Number: 61301611121; Number of Positions: 16; Gender: Male; Connector Type: Male Pin; Pitch: 0.1inch; Supplier 1: Digi-Key; RoHS: Yes; Category: Headers and Wire Housings; Stock 1: 3075; Pricing 1: 1=0/94000, 10=0/79300, 25=0/66120, 50=0/55100, 100=0/50100, 500=0/45500 (USD); Mount: Through Hole; Contact Plating: Gold; Contact Material: Copper; Color: Black; Number of Rows: 1; Packaging: Bulk; Termination: Solder; Number of Contacts: 16; Contact Mating Length: 0.236inch; REACH SVHC: Unknown; RoHS Compliant: Yes; ComponentLink1URL: http://www.farnell.com/cad/1737268.pdf?src-supplier=Element14; ComponentLink1Description: http://www.farnell.com/cad/1737268.pdf?src-supplier=Element14; ComponentLink2URL: https://katalog.we-online.de/em/datasheet/6130xx11121.pdf?src-supplier=Digi-Key; ComponentLink2Description: https://katalog.we-online.de/em/datasheet/6130xx11121.pdf?src-supplier=Digi-Key; Supplier Part Number 1: 732-5327-ND
footprint HDR-M-S-P2.54-H11.3-1x16
pins: 1, 2, 3, 4, 5, 6, 7, 8, 9, 10, 11, 12, 13, 14, 15, 16

## PH_M_S_S_P2.54_H11.3_1x18
designator JP?, comment CONN HEADER VERT 18POS 2.54MM
THT Vertical Pin Header WR-PHD, Pitch 2.54 mm, Single Row, 18 pins; Manufacturer: Wurth Electronics; Manufacturer Part Number: 61301811121; Number of Positions: 18; Gender: Male; Connector Type: Male Pin; Pitch: 0.1inch; Supplier 1: Digi-Key; RoHS: Yes; Category: Connectors; Stock 1: 14; Pricing 1: 1=1/02000, 10=0/86500, 25=0/72120, 50=0/60100, 100=0/54600, 500=0/49700 (USD); Mount: Through Hole; Contact Plating: Gold; Contact Material: Copper; Color: Black; Number of Rows: 1; Packaging: Bulk; Termination: Solder; Number of Contacts: 18; Contact Mating Length: 0.236inch; REACH SVHC: Unknown; Lead Free: Lead Free; RoHS Compliant: Yes; ComponentLink1URL: http://www.farnell.com/cad/1737268.pdf?src-supplier=Element14; ComponentLink1Description: http://www.farnell.com/cad/1737268.pdf?src-supplier=Element14; ComponentLink2URL: https://katalog.we-online.de/em/datasheet/6130xx11121.pdf?src-supplier=Digi-Key; ComponentLink2Description: https://katalog.we-online.de/em/datasheet/6130xx11121.pdf?src-supplier=Digi-Key; Supplier Part Number 1: 732-5328-ND
footprint HDR-M-S-P2.54-H11.3-1x18
pins: 1, 2, 3, 4, 5, 6, 7, 8, 9, 10, 11, 12, 13, 14, 15, 16, 17, 18

## PH_M_S_S_P2.54_H11.3_1x20
designator JP?, comment CONN HEADER VERT 20POS 2.54MM
THT Vertical Pin Header WR-PHD, Pitch 2.54 mm, Single Row, 20 pins; Manufacturer: Wurth Electronics; Manufacturer Part Number: 61302011121; Number of Positions: 20; Gender: Male; Connector Type: Male Pin; Pitch: 0.1inch; Supplier 1: Digi-Key; RoHS: Yes; Category: Connectors; Stock 1: 229; Pricing 1: 1=1/19000, 10=1/00900, 25=0/84120, 50=0/70100, 100=0/63800, 500=0/58000 (USD); Mount: Through Hole; Contact Plating: Gold; Contact Material: Copper; Color: Black; Number of Rows: 1; Packaging: Bulk; Termination: Solder; Number of Contacts: 20; Contact Mating Length: 0.236inch; REACH SVHC: Unknown; RoHS Compliant: Yes; ComponentLink1URL: https://katalog.we-online.de/em/datasheet/6130xx11121.pdf?src-supplier=Digi-Key; ComponentLink1Description: https://katalog.we-online.de/em/datasheet/6130xx11121.pdf?src-supplier=Digi-Key; Supplier Part Number 1: 732-5329-ND
footprint HDR-M-S-P2.54-H11.3-1x20
pins: 1, 2, 3, 4, 5, 6, 7, 8, 9, 10, 11, 12, 13, 14, 15, 16, 17, 18, 19, 20

## PH_M_S_S_P2.54_H11.3_1x22
designator JP?, comment CONN HEADER VERT 22POS 2.54MM
THT Vertical Pin Header WR-PHD, Pitch 2.54 mm, Single Row, 22 pins; Manufacturer: Wurth Electronics; Manufacturer Part Number: 61302211121; Number of Positions: 22; Gender: Male; Connector Type: Male Pin; Pitch: 0.1inch; Supplier 1: Digi-Key; RoHS: Yes; Category: Connectors; Stock 1: 455; Pricing 1: 1=1/19000, 10=1/00900, 25=0/84120, 50=0/70100, 100=0/63800, 500=0/58000 (USD); Mount: Through Hole; Contact Plating: Gold; Contact Material: Copper; Color: Black; Number of Rows: 1; Packaging: Bulk; Termination: Solder; Number of Contacts: 22; Contact Mating Length: 0.236inch; REACH SVHC: Unknown; RoHS Compliant: Yes; ComponentLink1URL: http://www.farnell.com/cad/1737268.pdf?src-supplier=Element14; ComponentLink1Description: http://www.farnell.com/cad/1737268.pdf?src-supplier=Element14; ComponentLink2URL: https://katalog.we-online.de/em/datasheet/6130xx11121.pdf?src-supplier=Digi-Key; ComponentLink2Description: https://katalog.we-online.de/em/datasheet/6130xx11121.pdf?src-supplier=Digi-Key; Supplier Part Number 1: 732-5330-ND
footprint HDR-M-S-P2.54-H11.3-1x22
pins: 1, 2, 3, 4, 5, 6, 7, 8, 9, 10, 11, 12, 13, 14, 15, 16, 17, 18, 19, 20, 21, 22

## PH_M_S_S_P2.54_H11.3_1x24
designator JP?, comment CONN HEADER VERT 24POS 2.54MM
THT Vertical Pin Header WR-PHD, Pitch 2.54 mm, Single Row, 24 pins; Manufacturer: Wurth Electronics; Manufacturer Part Number: 61302411121; Number of Positions: 24; Gender: Male; Connector Type: Male Pin; Pitch: 0.1inch; Supplier 1: Digi-Key; RoHS: Yes; Category: Connectors; Stock 1: 1448; Pricing 1: 1=1/28000, 10=1/08200, 25=0/90120, 50=0/75100, 100=0/68300, 500=0/62100 (USD); Mount: Through Hole; Contact Plating: Gold; Contact Material: Copper; Color: Black; Number of Rows: 1; Packaging: Bulk; Termination: Solder; Number of Contacts: 24; Contact Mating Length: 0.236inch; REACH SVHC: Unknown; RoHS Compliant: Yes; ComponentLink1URL: http://www.farnell.com/cad/1737268.pdf?src-supplier=Element14; ComponentLink1Description: http://www.farnell.com/cad/1737268.pdf?src-supplier=Element14; ComponentLink2URL: https://katalog.we-online.de/em/datasheet/6130xx11121.pdf?src-supplier=Digi-Key; ComponentLink2Description: https://katalog.we-online.de/em/datasheet/6130xx11121.pdf?src-supplier=Digi-Key; Supplier Part Number 1: 732-5331-ND
footprint HDR-M-S-P2.54-H11.3-1x24
pins: 1, 2, 3, 4, 5, 6, 7, 8, 9, 10, 11, 12, 13, 14, 15, 16, 17, 18, 19, 20, 21, 22, 23, 24

## PH_M_S_S_P2.54_H11.3_1x25
designator JP?, comment CONN HEADER VERT 25POS 2.54MM
THT Vertical Pin Header WR-PHD, Pitch 2.54 mm, Single Row, 25 pins; Manufacturer: Wurth Electronics; Manufacturer Part Number: 61302511121; Number of Positions: 25; Gender: Male; Connector Type: Male Pin; Pitch: 0.1inch; Supplier 1: Digi-Key; RoHS: Yes; Category: Connectors; Stock 1: 348; Pricing 1: 1=1/36000, 10=1/15400, 25=0/96200, 50=0/80100, 100=0/72900, 500=0/66200 (USD); Mount: Through Hole; Contact Plating: Gold; Contact Material: Copper; Color: Black; Number of Rows: 1; Packaging: Bulk; Termination: Solder; Number of Contacts: 25; Contact Mating Length: 0.236inch; REACH SVHC: Unknown; RoHS Compliant: Yes; ComponentLink1URL: http://www.farnell.com/cad/1737268.pdf?src-supplier=Element14; ComponentLink1Description: http://www.farnell.com/cad/1737268.pdf?src-supplier=Element14; Supplier Part Number 1: 732-5332-ND
footprint HDR-M-S-P2.54-H11.3-1x25
pins: 1, 2, 3, 4, 5, 6, 7, 8, 9, 10, 11, 12, 13, 14, 15, 16, 17, 18, 19, 20, 21, 22, 23, 24, 25

## PH_M_S_S_P2.54_H11.3_1x32
designator JP?, comment CONN HEADER VERT 32POS 2.54MM
THT Vertical Pin Header WR-PHD, Pitch 2.54 mm, Single Row, 32 pins; Manufacturer: Wurth Electronics; Manufacturer Part Number: 61303211121; Current Rating: 3A; Voltage Rating: 250V; Number of Positions: 32; Insulation: Insulated; Insulation Resistance: 1GR; Gender: Male; Connector Type: Male Pin; Contact Post Length: 3mm; Supplier 1: Digi-Key; RoHS: Yes; Category: Headers and Wire Housings; Stock 1: 287; Pricing 1: 1=2/15000, 10=2/10900, 50=1/94800, 100=1/78500, 250=1/62300 (USD); Mount: Through Hole; Contact Material: Copper Alloy; Contact Plating: Gold; Color: Black; Housing Material: PBT; Housing Color: Black; Weight: 0.064199oz; Min Operating Temperature: -40°C; Max Operating Temperature: 125°C; Number of Rows: 1; Package Quantity: 250; Packaging: Bulk; Contact Gender: Male; Termination: Through Hole; Number of Contacts: 32; Series: WR-PHD; Contact Type: -; Orientation: Straight; Length: 81.28mm; Width: 81.28mm; Height: 2.54mm; Pitch: 2.54mm; Contact Mating Length: 6mm; REACH SVHC: Unknown; Flammability Rating: UL94 V-0; RoHS Compliant: Yes; ComponentLink1URL: https://datasheet.ciiva.com/25618/0900766b81113c2c-25618097.pdf?src-supplier=RSComponents; ComponentLink1Description: https://datasheet.ciiva.com/25618/0900766b81113c2c-25618097.pdf?src-supplier=RSComponents; ComponentLink2URL: https://datasheet.ciiva.com/738/6130xx11121-738551.pdf?src-supplier=Digi-Key; ComponentLink2Description: https://datasheet.ciiva.com/738/6130xx11121-738551.pdf?src-supplier=Digi-Key; ComponentLink3URL: https://datasheet.ciiva.com/7631/1442175-7631325.pdf?src-supplier=Element14; ComponentLink3Description: https://datasheet.ciiva.com/7631/1442175-7631325.pdf?src-supplier=Element14; Supplier Part Number 1: 732-2671-ND
footprint HDR-M-S-P2.54-H11.3-1x32
pins: 1, 2, 3, 4, 5, 6, 7, 8, 9, 10, 11, 12, 13, 14, 15, 16, 17, 18, 19, 20, 21, 22, 23, 24, 25, 26, 27, 28, 29, 30, 31, 32

## PH_M_S_S_P2.54_H11.3_1x36
designator JP?, comment CONN HEADER VERT 36POS 2.54MM
THT Vertical Pin Header WR-PHD, Pitch 2.54 mm, Single Row, 36 pins; Manufacturer: Wurth Electronics; Manufacturer Part Number: 61303611121; Number of Positions: 36; Gender: Male; Connector Type: Male Pin; Pitch: 0.1inch; Supplier 1: Digi-Key; RoHS: Yes; Category: Connectors; Stock 1: 1594; Pricing 1: 1=1/49000, 10=1/26400, 25=1/05320, 50=0/87800, 100=0/79800, 400=0/72600 (USD); Mount: Through Hole; Contact Plating: Gold; Contact Material: Copper; Color: Black; Number of Rows: 1; Packaging: Bulk; Termination: Solder; Number of Contacts: 36; Contact Mating Length: 0.236inch; REACH SVHC: Unknown; RoHS Compliant: Yes; ComponentLink1URL: http://www.farnell.com/cad/1737268.pdf?src-supplier=Element14; ComponentLink1Description: http://www.farnell.com/cad/1737268.pdf?src-supplier=Element14; ComponentLink2URL: http://katalog.we-online.de/em/datasheet/6130xx11121.pdf?src-supplier=Digi-Key; ComponentLink2Description: http://katalog.we-online.de/em/datasheet/6130xx11121.pdf?src-supplier=Digi-Key; Supplier Part Number 1: 732-5333-ND
footprint HDR-M-S-P2.54-H11.3-1x36
pins: 1, 2, 3, 4, 5, 6, 7, 8, 9, 10, 11, 12, 13, 14, 15, 16, 17, 18, 19, 20, 21, 22, 23, 24, 25, 26, 27, 28, 29, 30, 31, 32, 33, 34, 35, 36

## PH_M_S_S_P2.54_H11.3_1x40
designator JP?, comment CONN HEADER VERT 40POS 2.54MM
THT Vertical Pin Header WR-PHD, Pitch 2.54 mm, Single Row, 40 pins; Manufacturer: Wurth Electronics; Manufacturer Part Number: 61304011121; Number of Positions: 40; Gender: Male; Connector Type: Male Pin; Pitch: 0.1inch; Supplier 1: Digi-Key; RoHS: Yes; Category: Connectors; Stock 1: 3622; Pricing 1: 1=1/49000, 10=1/26400, 25=1/05320, 50=0/87800, 100=0/79800, 400=0/72600 (USD); Mount: Through Hole; Contact Plating: Gold; Contact Material: Copper; Color: Black; Packaging: Bulk; Termination: Solder; Number of Rows: 1; Number of Contacts: 40; Contact Mating Length: 0.236inch; RoHS Compliant: Yes; REACH SVHC: Unknown; ComponentLink1URL: http://www.farnell.com/cad/1737268.pdf?src-supplier=Element14; ComponentLink1Description: http://www.farnell.com/cad/1737268.pdf?src-supplier=Element14; ComponentLink2URL: https://katalog.we-online.de/em/datasheet/6130xx11121.pdf?src-supplier=Digi-Key; ComponentLink2Description: https://katalog.we-online.de/em/datasheet/6130xx11121.pdf?src-supplier=Digi-Key; Supplier Part Number 1: 732-5334-ND
footprint HDR-M-S-P2.54-H11.3-1x40
pins: 1, 2, 3, 4, 5, 6, 7, 8, 9, 10, 11, 12, 13, 14, 15, 16, 17, 18, 19, 20, 21, 22, 23, 24, 25, 26, 27, 28, 29, 30, 31, 32, 33, 34, 35, 36, 37, 38, 39, 40

## PH_M_S_S_P2.54_H11.3_2x03
designator JP?, comment CONN HEADER VERT 6POS 2.54MM  Manufacturer Part Number: 61300621121
THT Vertical Pin Header WR-PHD, Pitch 2.54 mm, Dual Row, 6 pins; Manufacturer: Wurth Electronics; Number of Positions: 6; Gender: Male; Connector Type: Male Pin; Pitch: 0.1inch; Supplier 1: Digi-Key; RoHS: Yes; Category: Headers and Wire Housings; Stock 1: 13699; Pricing 1: 1=0/57000, 10=0/48400, 25=0/40400, 50=0/33700, 100=0/30600, 1000=0/27800 (USD); Mount: Through Hole; Contact Plating: Gold; Contact Material: Copper; Color: Black; Number of Rows: 2; Packaging: Bulk; Termination: Solder; Number of Contacts: 6; Series: WR-PHD; Contact Type: Male Pin; Row Spacing: 0.1inch; Contact Mating Length: 0.236inch; RoHS Compliant: Yes; ComponentLink1URL: https://datasheet.ciiva.com/28505/1442180-28505463.pdf?src-supplier=Element14; ComponentLink1Description: https://datasheet.ciiva.com/28505/1442180-28505463.pdf?src-supplier=Element14; Supplier Part Number 1: 732-5295-ND
footprint HDR-M-S-P2.54-H11.3-2x03
pins: 1, 2, 3, 4, 5, 6

## S8411-45R
designator J?, comment BATT HOLDER COIN 12MM 1 CELL SMD
EZ-Coin Cell Battery Retainer, Horizontal SMT, for CR1220 Coin Cell Batteries; Manufacturer: Harwin; Manufacturer Part Number: S8411-45R; Number of Batteries: 1; Supplier 1: Digi-Key; RoHS: Yes; Category: Connectors; Stock 1: 6757; Pricing 1: 1=1/53000, 10=1/29000, 50=1/13440, 100=1/06920, 250=0/98388 (USD); Mount: Surface Mount,PCB; Case/Package: SMD/SMT; Material: Polyphenylene; Contact Plating: Bronze; Min Operating Temperature: -55°C; Max Operating Temperature: 105°C; Package Quantity: 500; Termination: SMD/SMT; Packaging: Tape and Reel; Number of Cells: 1; REACH SVHC: No SVHC; ComponentLink1URL: https://datasheet.ciiva.com/5224/s8411r-51460-5224679.pdf?src-supplier=Mouser; ComponentLink1Description: https://datasheet.ciiva.com/5224/s8411r-51460-5224679.pdf?src-supplier=Mouser; ComponentLink2URL: https://datasheet.ciiva.com/1391/1633586-1391067.pdf?src-supplier=Element14; ComponentLink2Description: https://datasheet.ciiva.com/1391/1633586-1391067.pdf?src-supplier=Element14; Supplier Part Number 1: 952-1745-1-ND
footprint BACKUP BATT - 2 (SMD BACK UP BATTERY FIT)
pins: 1 GND (power), 2 VCC (power)
text: +

## SIMCARDHolder_6Pin_1
designator J?, comment CONN SIM CARD PUSH-PULL R/A SMD
Memory Card Connectors SIM CARD CONN. 2.0MM D CONN. 2.0MM HEIGHT; Manufacturer: Molex; Manufacturer Part Number: 47308-0001; Number of Contacts: 6; Gender: Male; Number of Circuits: 7; Current Rating: 10mA; Voltage Rating: 5V; Pitch: 2.54mm; Glow Wire Compliant: Non-compliant; Supplier 1: Digi-Key; RoHS: Yes; Category: Memory Connectors; Mount: Surface Mount; Housing Material: Thermoplastic; Contact Material: Bronze; Contact Plating: Gold; Min Operating Temperature: -40°C; Max Operating Temperature: 85°C; Termination: SMD/SMT; Orientation: Straight; Number of Rows: 2; Packaging: Tape and Reel; Length: 17.1mm; Depth: 15.3mm; Radiation Hardening: No; Halogen Free: Low Halogen; ComponentLink1URL: https://datasheet.ciiva.com/4581/0473080001-memory-card-socket-146189-4581622.pdf?src-supplier=Mouser; ComponentLink1Description: https://datasheet.ciiva.com/4581/0473080001-memory-card-socket-146189-4581622.pdf?src-supplier=Mouser; ComponentLink2URL: https://datasheet.ciiva.com/1104/1710632-1104605.pdf?src-supplier=Element14; ComponentLink2Description: https://datasheet.ciiva.com/1104/1710632-1104605.pdf?src-supplier=Element14; ComponentLink3URL: https://datasheet.ciiva.com/9464/0473080001-memory-card-socket-9464144.pdf?src-supplier=Avnet; ComponentLink3Description: https://datasheet.ciiva.com/9464/0473080001-memory-card-socket-9464144.pdf?src-supplier=Avnet; ComponentLink4URL: https://datasheet.ciiva.com/26825/getdatasheetpartid-119127-26825191.pdf?src-supplier=Verical; ComponentLink4Description: https://datasheet.ciiva.com/26825/getdatasheetpartid-119127-26825191.pdf?src-supplier=Verical; Supplier Part Number 1: WM6699CT-ND
footprint SIMCARD_HOLDER_1
pins: 1 SIM_DATA (io), 2 SIM_CLK (in), 3 VPP, 4 SIM_RST (in), 5 GND (power), 6 SIM_VCC (power)

## TER_PHX_2POS_R_3.5MM
designator P?, comment TERM BLOCK HDR 2POS 90DEG 3.5MM
Header; 8 A; 160 V; 3.5; 2; Soldering; 1.2 mm; 2.5 kV; 250 V; PBT; 0.8 x 0.8 mm; Manufacturer: Phoenix Contact; Manufacturer Part Number: 1844210; Current Rating: 8A; Voltage Rating: 160V; Number of Positions: 2; Number of Levels: 1; Voltage: 300V; Gender: Male; Connector Type: Plug; Voltage Rating (DC): 250V; Approvals: UL,CSA; Supplier: Digi-Key; Supplier Part Number: 277-2416-ND; RoHS: Yes; Category: Terminal Blocks; Stock: 3928; Pricing: 1=1.13000, 10=1.00100, 50=0.95700, 100=0.93090, 250=0.87000, 500=0.80040, 1000=0.73950, 2500=0.70470, 5000=0.66120 (USD); Mounting Technology: Through Hole; Color: Green; Contact Plating: Tin; Weight: 4oz; Housing Color: Green; Material: PBT; Housing Material: Polybutylene; Contact Material: Tin; Number of Rows: 1; Package Quantity: 50; Packaging: Bulk; Termination: Solder; Number of Positions Per Level: 2; Current: 8A; Number of Contacts: 2; Orientation: Right Angle; Series: MC; Max Current Rating: 8A; Number of Poles: 2; Length: 8.4mm; Width: 10.65mm; Height: 9.2mm; Pitch: 3.5mm; Depth: 9.2mm; Lead Free: Lead Free; Flammability Rating: UL94 V-0; RoHS Compliant: Yes; ComponentLink1URL: https://datasheet.ciiva.com/16097/1844210-16097201.pdf?src-supplier=Onlinecomponents.com; ComponentLink1Description: https://datasheet.ciiva.com/16097/1844210-16097201.pdf?src-supplier=Onlinecomponents.com; ComponentLink2URL: https://datasheet.ciiva.com/15197/getdatasheetpartid-198289-15197572.pdf?src-supplier=Verical; ComponentLink2Description: https://datasheet.ciiva.com/15197/getdatasheetpartid-198289-15197572.pdf?src-supplier=Verical; ComponentLink3URL: https://datasheet.ciiva.com/815/1844210-815897.pdf?src-supplier=Digi-Key; ComponentLink3Description: https://datasheet.ciiva.com/815/1844210-815897.pdf?src-supplier=Digi-Key; ComponentLink4URL: https://datasheet.ciiva.com/29211/740374-da-01-de-leiterplattenstecker-mc-1-5-2-g-3-5-29211985.pdf?src-supplier=Conrad; ComponentLink4Description: https://datasheet.ciiva.com/29211/740374-da-01-de-leiterplattenstecker-mc-1-5-2-g-3-5-29211985.pdf?src-supplier=Conrad; ComponentLink5URL: https://datasheet.ciiva.com/16939/70054518-16939959.pdf?src-supplier=Allied+Electronics; ComponentLink5Description: https://datasheet.ciiva.com/16939/70054518-16939959.pdf?src-supplier=Allied+Electronics
footprint TER-Phoenix-3.5mm-R-02
pins: 1, 2
text: +

## TER_PHX_2POS_R_3.81MM
designator P?, comment TERM BLOCK HDR 2POS 90DEG 3.81MM
Pluggable Terminal Blocks BCH-381H- 2 GN 3.81 MM HEADER; Manufacturer: Phoenix Contact; Manufacturer Part Number: 5444262; Current Rating: 8A; Voltage Rating: 160V; Number of Positions: 2; Number of Levels: 1; Voltage: 300V; Pitch: 0.15inch; Supplier: Digi-Key; Supplier Part Number: 277-11313-ND; RoHS: Yes; Category: Terminal Blocks; Stock: 244599; Pricing: 1=1.00000, 10=0.83600, 50=0.81320, 100=0.76000, 250=0.69920, 500=0.64600, 1000=0.61560, 2500=0.57760, 5000=0.57000 (USD); Mounting Technology: Through Hole; Contact Plating: Tin; Color: Green; Housing Material: Polyamide; Package Quantity: 100; Packaging: Bulk; Number of Positions Per Level: 2; Termination: Solder; Current: 8A; Length: 9.2mm; Flammability Rating: UL94 V-0; RoHS Compliant: Yes; ComponentLink1URL: https://datasheet.ciiva.com/29682/5444262-29682658.pdf?src-supplier=Digi-Key; ComponentLink1Description: https://datasheet.ciiva.com/29682/5444262-29682658.pdf?src-supplier=Digi-Key
footprint TER-Phoenix-3.81mm-R-02
pins: 1, 2
text: +